# Altium schematic symbol library 5050LED.SCHLIB: 1 symbol
Pins are listed as number, name and electrical type; pins without a type are passive.

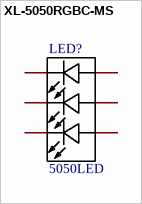
[diagram p0: symbol XL-5050RGBC-MS]

## XL-5050RGBC-MS
designator LED?  Name: 5050LED  (hidden comment: XL-5050RGBC-MS)
发光颜色:RGB三色;二极管配置:-;主波长:520nm~525nm；620nm~625nm；460nm~470nm;功率:225mW;安装方式:正贴;; Manufacturer: XINGLIGHT(成兴光); Add into BOM: yes; Emitted Color: RGB三色; Lens Color: 无色透明; Peak Wavelength: 525nm；625nm；470nm; Forward Current: 50mA; Power Dissipation: 225mW; Viewing Angle: 25°; Mounting Sytle: 正贴; Symbol: XL-5050RGBC-MS; Device: XL-5050RGBC-MS; LCSC Part Name: RGB三色 正贴 RGB慢闪（通电后灯光颜色依次慢闪烁） 460nm~470nm 520nm~525nm 620nm~625nm 正贴; Supplier Part: C2843784; Manufacturer Part: XL-5050RGBC-MS; Supplier Footprint: SMD5050; JLCPCB Part Class: 扩展库; Datasheet: https://atta.szlcsc.com/upload/public/pdf/source/20230228/EE0BFF137E7DD0190B8584F95D11EDD7.pdf; Supplier: LCSC; Convert to PCB: yes; Diode Configuration: -; Dominant Wavelength: 520nm~525nm；620nm~625nm；460nm~470nm; Operating Temperature: -30℃~+85℃
footprint LED-ARRAY-SMD_6P-L5.0-W5.0-TL-RD_XL-5050RGBC-MS
3D model LED-ARRAY-SMD_6P-L5.0-W5.0-TL-RD_XL-5050RGBC-MS
pins: 1 K, 2 K, 3 K, 4 A, 5 A, 6 A